# Altium footprint library Logo 1.PcbLib: 1 footprints
Each footprint in its own frame and in the unit in brackets; x right, y up, seen from the top. Pads: shape width x height; smd on the part's side, far side on the other; paste and mask are expansions set on the pad; w line width, h text height; cw(c..) or ccw(c..) is an arc to the next point about the centre after c.
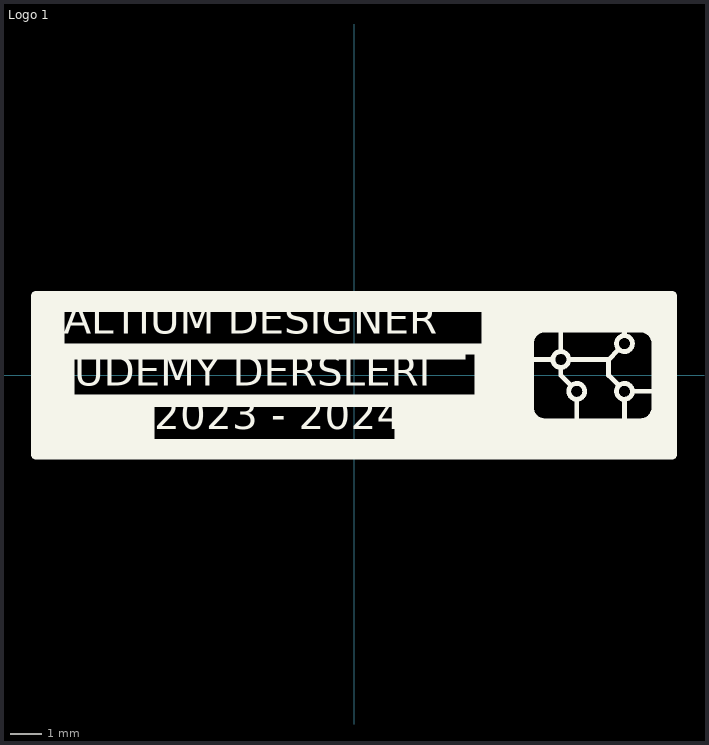
[diagram p0: the footprint, top view; thin cyan lines are the x and y axes]

## Logo 1 [mm] "Logo 1"
Top Overlay:
  circle w0.15: c7,-0.5 r0.25
  circle w0.15: c8.5,-0.5 r0.25
  circle w0.15: c6.5,0.5 r0.25
  circle w0.15: c8.5,1 r0.25
  rectangle: 5.2,-2.4 9.8,-1.5
  rectangle: 9.5,-2.5 10,1.8
  rectangle: 5.3,1.5 10,2.5
  rectangle: 4.8,-2.5 5.6,2.5
  rectangle: 3.789,0.4 4.1,0.7
  rectangle: 3.461,0.659 4.1,1
  rectangle: -9.7,-0.8 -8.788,0.6
  rectangle: 3.789,-0.7 5,0.5
  rectangle: 1.277,-2.1 4.1,-0.9
  rectangle: 4,-2.5 5,2.5
  rectangle: -10,-1 5,-0.6
  rectangle: -9.2,0.5 3.5,1
  rectangle: -10,-2.5 -6.271,-0.9
  rectangle: -10,-2.5 -9.1,2.5
  rectangle: -10,-2.5 5,-2
  rectangle: -10,2 5,2.5
  lines w0.15: 5.4,0.5 6.2,0.5 ; 6.5,0.2 6.5,0 6.8,-0.3 ; 6.5,0.8 6.5,1.4 ; 6.8,0.5 8,0.5 ; 7,-1.5 7,-0.8 ; 8.3,-0.3 8,0 8,0.5 ; 8.3,0.8 8,0.5 ; 8.5,-1.4 8.5,-0.8 ; 8.5,1.3 8.5,1.5 ; 8.8,-0.5 9.5,-0.5
  lines w0.3: 5.3,-1 ccw(c6,-1) 6,-1.7 ; 5.3,1 cw(c6,1) 6,1.7 ; 9,-1.7 ccw(c9,-1) 9.7,-1 ; 9,1.7 cw(c9,1) 9.7,1 ; -10,-2.5 10,-2.5 10,2.5 -10,2.5 -10,-2.5 ; 5.5,-1 ccw(c6,-1) 6,-1.5 9,-1.5 ccw(c9,-1) 9.5,-1 9.5,1 ccw(c9,1) 9,1.5 6,1.5 ccw(c6,1) 5.5,1 5.5,-1
  text "2023 - 2024" at -6.279,-2.004 h1.6
  text "UDEMY DERSLERİ" at -8.792,-0.642 h1.6
  text "ALTIUM DESIGNER" at -9.124,0.989 h1.6